# Altium footprint library IC-SMD.PCBLIB: 298 footprints (part 8 of 19)
Each footprint in its own frame and in the unit in brackets; x right, y up, seen from the top. Pads: shape width x height; smd on the part's side, far side on the other; paste and mask are expansions set on the pad; w line width, h text height; cw(c..) or ccw(c..) is an arc to the next point about the centre after c.
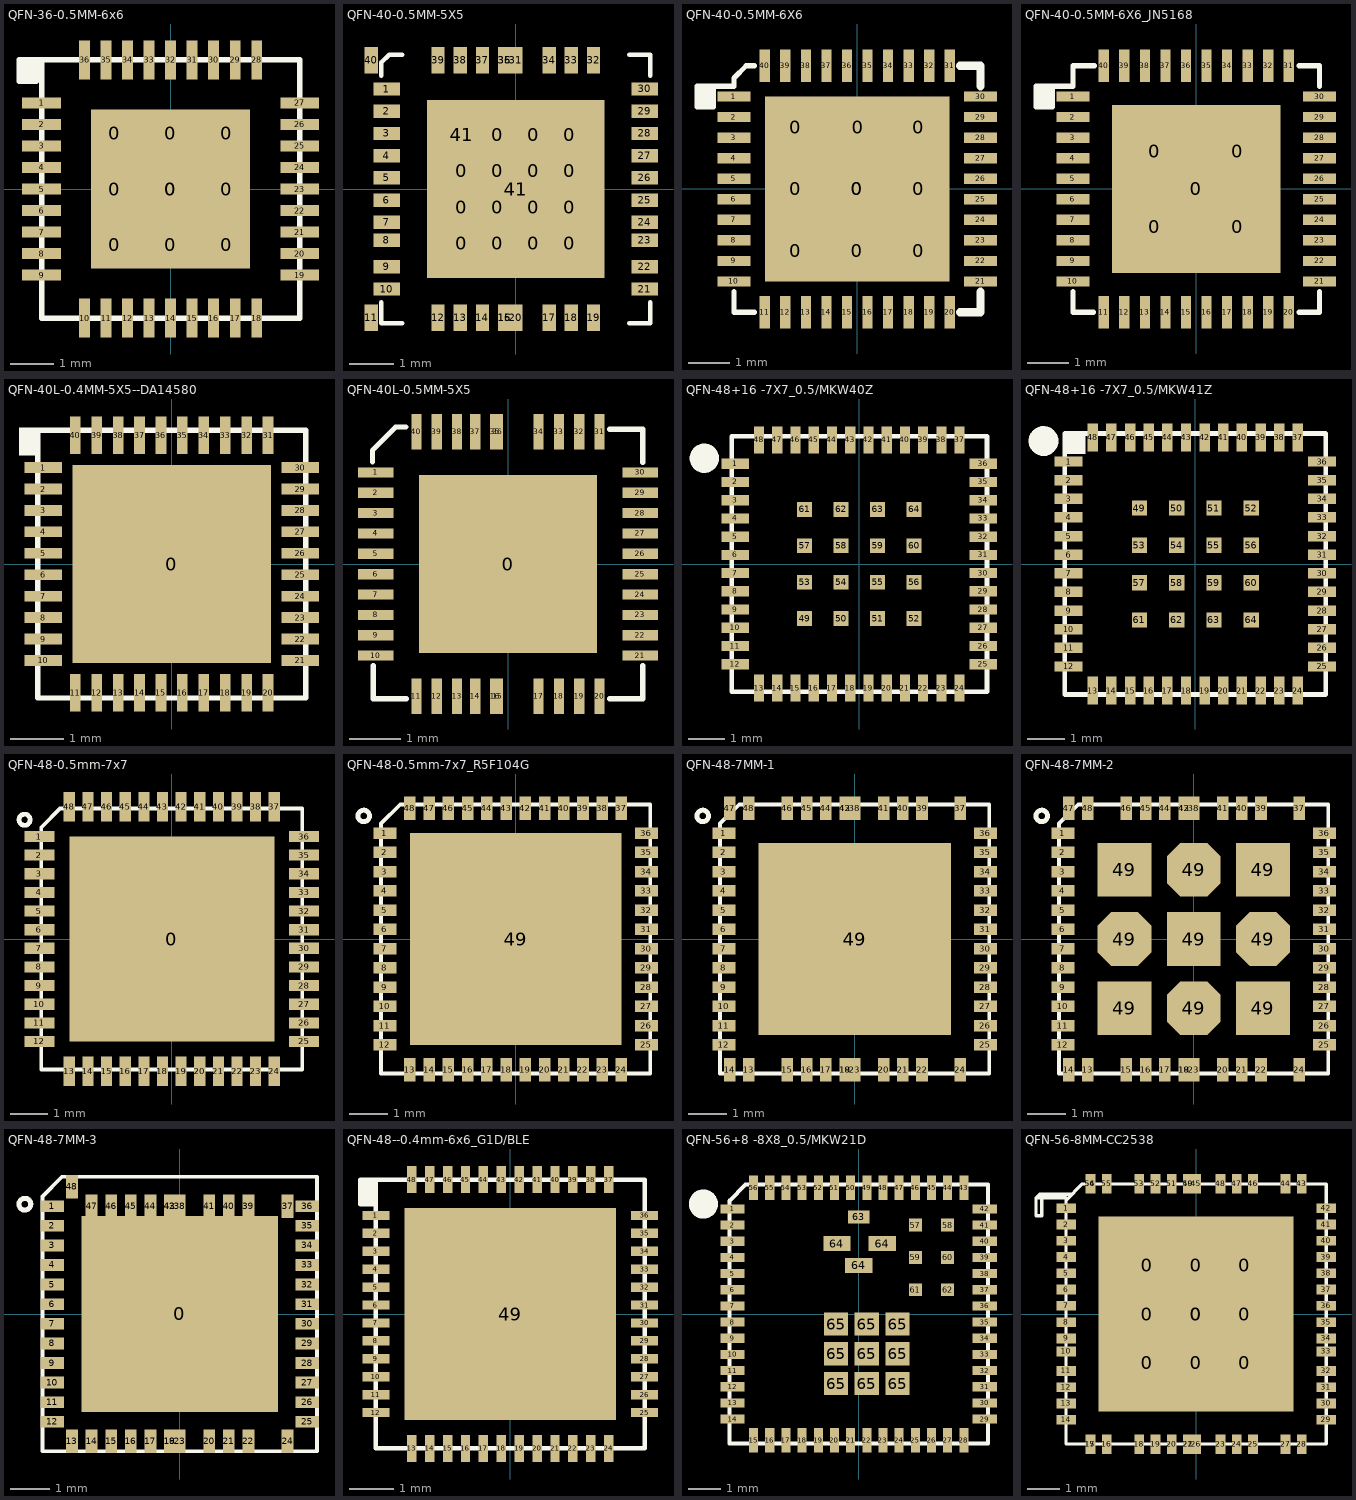
[diagram p7: the footprints below, top view; thin cyan lines are the x and y axes]

## QFN-36-0.5MM-6x6 [mm] "QFN-36-0.5MM-6x6"
pads (46):
  rect 0.9x0.9 on Top Paste: 0(-1.3,-1.3) 0(-1.3,0) 0(-1.3,1.3) 0(0,1.3) 0(0,-1.3) 0(0,0) 0(1.3,-1.3) 0(1.3,0) 0(1.3,1.3)
  rect 3.7x3.7 smd paste-5: 0(0,0)
  rect 0.9x0.25 smd: 1(-3,2) 2(-3,1.5) 3(-3,1) 4(-3,0.5) 5(-3,0) 6(-3,-0.5) 7(-3,-1) 8(-3,-1.5) 9(-3,-2) 19(3,-2) 20(3,-1.5) 21(3,-1) 22(3,-0.5) 23(3,0) 24(3,0.5) 25(3,1) 26(3,1.5) 27(3,2)
  rect 0.25x0.9 smd: 10(-2,-3) 11(-1.5,-3) 12(-1,-3) 13(-0.5,-3) 14(0,-3) 15(0.5,-3) 16(1,-3) 17(1.5,-3) 18(2,-3) 28(2,3) 29(1.5,3) 30(1,3) 31(0.5,3) 32(0,3) 33(-0.5,3) 34(-1,3) 35(-1.5,3) 36(-2,3)
TopOverlay:
  rectangle: -3.525,2.5 -3.125,3
  lines w0.127: -3.5,3 -3,3 ; -3,3 -3,-3 3,-3 3,3 -3,3 ; -3.525,2.5 -3.325,2.5 -3.125,2.5 -3.125,3 -3.325,3 -3.525,3 -3.525,2.5

## QFN-40-0.5MM-5X5 [mm]
pads (57):
  rect 0.559x0.7 on Top Paste: 0(-1.219,-1.219) 0(-1.219,-0.406) 0(-1.219,0.406) 0(-0.406,-1.219) 0(-0.406,-0.406) 0(-0.406,0.406) 0(-0.406,1.219) 0(0.406,-1.219) 0(0.406,-0.406) 0(0.406,0.406) 0(0.406,1.219) 0(1.219,-1.219) 0(1.219,-0.406) 0(1.219,0.406) 0(1.219,1.219) 41(-1.219,1.219)
  rect 0.6x0.3 smd: 1(-2.9,2.25) 2(-2.9,1.75) 3(-2.9,1.25) 4(-2.9,0.75) 5(-2.9,0.25) 6(-2.9,-0.25) 7(-2.9,-0.75) 8(-2.9,-1.15) 9(-2.9,-1.75) 10(-2.9,-2.25) 21(2.9,-2.25) 22(2.9,-1.75) 23(2.9,-1.15) 24(2.9,-0.75) 25(2.9,-0.25) 26(2.9,0.25) 27(2.9,0.75) 28(2.9,1.25) 29(2.9,1.75) 30(2.9,2.25)
  rect 0.3x0.6 smd: 11(-3.25,-2.9) 12(-1.75,-2.9) 13(-1.25,-2.9) 14(-0.75,-2.9) 15(-0.25,-2.9) 16(-0.25,-2.9) 17(0.75,-2.9) 18(1.25,-2.9) 19(1.75,-2.9) 20(0,-2.9) 31(0,2.9) 32(1.75,2.9) 33(1.25,2.9) 34(0.75,2.9) 35(-0.25,2.9) 36(-0.25,2.9) 37(-0.75,2.9) 38(-1.25,2.9) 39(-1.75,2.9) 40(-3.25,2.9)
  rect 4x4 smd: 41(0,0)
TopOverlay:
  lines w0.1: -3.023,-2.55 -3.023,-3.023 -2.55,-3.023 ; -3.023,2.55 -3.023,2.85 -2.85,3.023 -2.55,3.023 ; 2.55,-3.023 3.023,-3.023 3.023,-2.55 ; 2.55,3.023 3.023,3.023 3.023,2.55
TopSolder:
  rectangle: -2,-2 2,2
BottomSolder:
  rectangle: -2,-2 2,2

## QFN-40-0.5MM-6X6 [mm] "QFN-40-0.5MM-6X6"
pads (50):
  rect 1.2x1.2 on Top Paste: 0(-1.5,-1.5) 0(-1.5,0) 0(-1.5,1.5) 0(0,-1.5) 0(0,0) 0(0.025,1.5) 0(1.5,-1.5) 0(1.5,1.5) 0(1.5,0)
  rect 4.5x4.5 smd paste-5: 0(0,0)
  rect 0.8x0.25 smd: 1(-3,2.25) 2(-3,1.75) 3(-3,1.25) 4(-3,0.75) 5(-3,0.25) 6(-3,-0.25) 7(-3,-0.75) 8(-3,-1.25) 9(-3,-1.75) 10(-3,-2.25) 21(3,-2.25) 22(3,-1.75) 23(3,-1.25) 24(3,-0.75) 25(3,-0.25) 26(3,0.25) 27(3,0.75) 28(3,1.25) 29(3,1.75) 30(3,2.25)
  rect 0.25x0.8 smd: 11(-2.25,-3) 12(-1.75,-3) 13(-1.25,-3) 14(-0.75,-3) 15(-0.25,-3) 16(0.25,-3) 17(0.75,-3) 18(1.25,-3) 19(1.75,-3) 20(2.25,-3) 31(2.25,3) 32(1.75,3) 33(1.25,3) 34(0.75,3) 35(0.25,3) 36(-0.25,3) 37(-0.75,3) 38(-1.25,3) 39(-1.75,3) 40(-2.25,3)
TopOverlay:
  rectangle: -3.9,2 -3.5,2.5
  lines w0.127: -3,-2.5 -3,-3 -2.5,-3 ; -2.5,3 -2.7,3 -3,2.7 -3,2.5 -3.5,2.5 ; -3.5,2.5 -3.5,2 -3.7,2 -3.9,2 -3.9,2.5 -3.7,2.5 -3.5,2.5
  lines w0.2: 2.5,-3 3,-3 3,-2.5 ; 2.5,3 3,3 3,2.5

## QFN-40-0.5MM-6X6_JN5168 [mm] "QFN-40-0.5MM-6X6_JN5168"
pads (45):
  rect 1.53x1.53 on Top Paste: 0(-1.015,-0.915) 0(-1.015,0.915) 0(1.015,-0.915) 0(1.015,0.915)
  rect 4.1x4.1 smd paste-5: 0(0,0)
  rect 0.8x0.25 smd: 1(-3,2.25) 2(-3,1.75) 3(-3,1.25) 4(-3,0.75) 5(-3,0.25) 6(-3,-0.25) 7(-3,-0.75) 8(-3,-1.25) 9(-3,-1.75) 10(-3,-2.25) 21(3,-2.25) 22(3,-1.75) 23(3,-1.25) 24(3,-0.75) 25(3,-0.25) 26(3,0.25) 27(3,0.75) 28(3,1.25) 29(3,1.75) 30(3,2.25)
  rect 0.25x0.8 smd: 11(-2.25,-3) 12(-1.75,-3) 13(-1.25,-3) 14(-0.75,-3) 15(-0.25,-3) 16(0.25,-3) 17(0.75,-3) 18(1.25,-3) 19(1.75,-3) 20(2.25,-3) 31(2.25,3) 32(1.75,3) 33(1.25,3) 34(0.75,3) 35(0.25,3) 36(-0.25,3) 37(-0.75,3) 38(-1.25,3) 39(-1.75,3) 40(-2.25,3)
TopOverlay:
  rectangle: -3.9,2 -3.5,2.5
  lines w0.127: -3,-2.5 -3,-3 -2.5,-3 ; -3,3 -3,2.5 -3.5,2.5 ; -2.975,3 -2.475,3 ; 2.5,-3 3,-3 3,-2.5 ; 2.5,3 3,3 3,2.5 ; -3.5,2.5 -3.5,2 -3.7,2 -3.9,2 -3.9,2.5 -3.7,2.5 -3.5,2.5

## QFN-40L-0.4MM-5X5--DA14580 [mm] "QFN-40L-0.4MM-5X5--DA14580"
pads (41):
  rect 3.7x3.7 smd: 0(0,0)
  rect 0.7x0.2 smd: 1(-2.4,1.8) 2(-2.4,1.4) 3(-2.4,1) 4(-2.4,0.6) 5(-2.4,0.2) 6(-2.4,-0.2) 7(-2.4,-0.6) 8(-2.4,-1) 9(-2.4,-1.4) 10(-2.4,-1.8) 21(2.4,-1.8) 22(2.4,-1.4) 23(2.4,-1) 24(2.4,-0.6) 25(2.4,-0.2) 26(2.4,0.2) 27(2.4,0.6) 28(2.4,1) 29(2.4,1.4) 30(2.4,1.8)
  rect 0.2x0.7 smd: 11(-1.8,-2.4) 12(-1.4,-2.4) 13(-1,-2.4) 14(-0.6,-2.4) 15(-0.2,-2.4) 16(0.2,-2.4) 17(0.6,-2.4) 18(1,-2.4) 19(1.4,-2.4) 20(1.8,-2.4) 31(1.8,2.4) 32(1.4,2.4) 33(1,2.4) 34(0.6,2.4) 35(0.2,2.4) 36(-0.2,2.4) 37(-0.6,2.4) 38(-1,2.4) 39(-1.4,2.4) 40(-1.8,2.4)
TopOverlay:
  rectangle: -2.85,2.025 -2.5,2.55
  lines w0.1: -2.5,-2.5 2.05,-2.5 2.5,-2.5 2.5,2.05 2.5,2.5 2.05,2.5 -2.5,2.5 -2.5,-2.05 -2.5,-2.5

## QFN-40L-0.5MM-5X5 [mm]
pads (41):
  rect 3.5x3.5 smd: 0(0,0)
  rect 0.7x0.2 smd: 1(-2.6,1.8) 2(-2.6,1.4) 3(-2.6,1) 4(-2.6,0.6) 5(-2.6,0.2) 6(-2.6,-0.2) 7(-2.6,-0.6) 8(-2.6,-1) 9(-2.6,-1.4) 10(-2.6,-1.8) 21(2.6,-1.8) 22(2.6,-1.4) 23(2.6,-1) 24(2.6,-0.6) 25(2.6,-0.2) 26(2.6,0.2) 27(2.6,0.6) 28(2.6,1) 29(2.6,1.4) 30(2.6,1.8)
  rect 0.2x0.7 smd: 11(-1.8,-2.6) 12(-1.4,-2.6) 13(-1,-2.6) 14(-0.645,-2.6) 15(-0.2,-2.6) 16(-0.25,-2.6) 17(0.6,-2.6) 18(1,-2.6) 19(1.4,-2.6) 20(1.8,-2.6) 31(1.8,2.6) 32(1.4,2.6) 33(1,2.6) 34(0.6,2.6) 35(-0.25,2.6) 36(-0.2,2.6) 37(-0.645,2.6) 38(-1,2.6) 39(-1.4,2.6) 40(-1.8,2.6)
TopOverlay:
  lines w0.1: -2.667,2.007 -2.667,2.235 -2.21,2.692 -2.007,2.692 ; -2.65,-2 -2.65,-2.65 -2,-2.65 ; 2,-2.65 2.65,-2.65 2.65,-2 ; 2,2.65 2.65,2.65 2.65,2

## QFN-48+16 -7X7_0.5/MKW40Z [mm] "QFN-48+16 -7X7_0.5/MKW40Z"
pads (64):
  rect 0.75x0.28 smd mask+0.05: 1(-3.4,2.75) 2(-3.4,2.25) 3(-3.4,1.75) 4(-3.4,1.25) 5(-3.4,0.75) 6(-3.4,0.25) 7(-3.4,-0.25) 8(-3.4,-0.75) 9(-3.4,-1.25) 10(-3.4,-1.75) 11(-3.4,-2.25) 12(-3.4,-2.75) 25(3.4,-2.75) 26(3.4,-2.25) 27(3.4,-1.75) 28(3.4,-1.25) 29(3.4,-0.75) 30(3.4,-0.25) 31(3.4,0.25) 32(3.4,0.75) 33(3.4,1.25) 34(3.4,1.75) 35(3.4,2.25) 36(3.4,2.75)
  rect 0.28x0.75 smd mask+0.05: 13(-2.75,-3.4) 14(-2.25,-3.4) 15(-1.75,-3.4) 16(-1.25,-3.4) 17(-0.75,-3.4) 18(-0.25,-3.4) 19(0.25,-3.4) 20(0.75,-3.4) 21(1.25,-3.4) 22(1.75,-3.4) 23(2.25,-3.4) 24(2.75,-3.4) 37(2.75,3.4) 38(2.25,3.4) 39(1.75,3.4) 40(1.25,3.4) 41(0.75,3.4) 42(0.25,3.4) 43(-0.25,3.4) 44(-0.75,3.4) 45(-1.25,3.4) 46(-1.75,3.4) 47(-2.25,3.4) 48(-2.75,3.4)
  rect 0.41x0.41 smd mask+0.05: 49(-1.5,-1.5) 50(-0.5,-1.5) 51(0.5,-1.5) 52(1.5,-1.5) 53(-1.5,-0.5) 54(-0.5,-0.5) 55(0.5,-0.5) 56(1.5,-0.5) 57(-1.5,0.5) 58(-0.5,0.5) 59(0.5,0.5) 60(1.5,0.5) 61(-1.5,1.5) 62(-0.5,1.5) 63(0.5,1.5) 64(1.5,1.5)
TopOverlay:
  circle w0.4: c-4.25,2.9 r0.2
  lines w0.127: -3.5,-3.5 3.5,-3.5 3.5,3.5 -3.5,3.5 -3.5,-3.5

## QFN-48+16 -7X7_0.5/MKW41Z [mm] "FN-48+16 -7X7_0.5/MKW41Z"
pads (64):
  rect 0.75x0.28 smd mask+0.05: 1(-3.4,2.75) 2(-3.4,2.25) 3(-3.4,1.75) 4(-3.4,1.25) 5(-3.4,0.75) 6(-3.4,0.25) 7(-3.4,-0.25) 8(-3.4,-0.75) 9(-3.4,-1.25) 10(-3.4,-1.75) 11(-3.4,-2.25) 12(-3.4,-2.75) 25(3.4,-2.75) 26(3.4,-2.25) 27(3.4,-1.75) 28(3.4,-1.25) 29(3.4,-0.75) 30(3.4,-0.25) 31(3.4,0.25) 32(3.4,0.75) 33(3.4,1.25) 34(3.4,1.75) 35(3.4,2.25) 36(3.4,2.75)
  rect 0.28x0.75 smd mask+0.05: 13(-2.75,-3.4) 14(-2.25,-3.4) 15(-1.75,-3.4) 16(-1.25,-3.4) 17(-0.75,-3.4) 18(-0.25,-3.4) 19(0.25,-3.4) 20(0.75,-3.4) 21(1.25,-3.4) 22(1.75,-3.4) 23(2.25,-3.4) 24(2.75,-3.4) 37(2.75,3.4) 38(2.25,3.4) 39(1.75,3.4) 40(1.25,3.4) 41(0.75,3.4) 42(0.25,3.4) 43(-0.25,3.4) 44(-0.75,3.4) 45(-1.25,3.4) 46(-1.75,3.4) 47(-2.25,3.4) 48(-2.75,3.4)
  rect 0.41x0.41 smd mask+0.05: 49(-1.5,1.5) 50(-0.5,1.5) 51(0.5,1.5) 52(1.5,1.5) 53(-1.5,0.5) 54(-0.5,0.5) 55(0.5,0.5) 56(1.5,0.5) 57(-1.5,-0.5) 58(-0.5,-0.5) 59(0.5,-0.5) 60(1.5,-0.5) 61(-1.5,-1.5) 62(-0.5,-1.5) 63(0.5,-1.5) 64(1.5,-1.5)
TopOverlay:
  circle w0.4: c-4.075,3.3 r0.2
  rectangle: -3.475,2.95 -2.95,3.5
  lines w0.127: -3.5,-3.5 -3.5,3.5 3.5,3.5 3.5,-3.5 -3.5,-3.5

## QFN-48-0.5mm-7x7 [mm] "QFN-48-0.5mm-7x7"
pads (49):
  rect 5.5x5.5 smd: 0(0,0)
  rect 0.8x0.3 smd: 1(-3.55,2.75) 2(-3.55,2.25) 3(-3.55,1.75) 4(-3.55,1.25) 5(-3.55,0.75) 6(-3.55,0.25) 7(-3.55,-0.25) 8(-3.55,-0.75) 9(-3.55,-1.25) 10(-3.55,-1.75) 11(-3.55,-2.25) 12(-3.55,-2.75) 25(3.55,-2.75) 26(3.55,-2.25) 27(3.55,-1.75) 28(3.55,-1.25) 29(3.55,-0.75) 30(3.55,-0.25) 31(3.55,0.25) 32(3.55,0.75) 33(3.55,1.25) 34(3.55,1.75) 35(3.55,2.25) 36(3.55,2.75)
  rect 0.3x0.8 smd: 13(-2.75,-3.55) 14(-2.25,-3.55) 15(-1.75,-3.55) 16(-1.25,-3.55) 17(-0.75,-3.55) 18(-0.25,-3.55) 19(0.25,-3.55) 20(0.75,-3.55) 21(1.25,-3.55) 22(1.75,-3.55) 23(2.25,-3.55) 24(2.75,-3.55) 37(2.75,3.55) 38(2.25,3.55) 39(1.75,3.55) 40(1.25,3.55) 41(0.75,3.55) 42(0.25,3.55) 43(-0.25,3.55) 44(-0.75,3.55) 45(-1.25,3.55) 46(-1.75,3.55) 47(-2.25,3.55) 48(-2.75,3.55)
TopOverlay:
  circle w0.127: c-3.95,3.2 r0.15
  lines w0.1: -3.5,-3.5 3.5,-3.5 3.5,3.5 -3,3.5 -3.5,3 -3.5,-3.5
TopPaste:
  rectangle: 0.3,-2.15 2,-0.25
  rectangle: -2.1,-2.15 -0.4,-0.25
  rectangle: 0.3,0.25 2,2.15
  rectangle: -2.1,0.25 -0.4,2.15

## QFN-48-0.5mm-7x7_R5F104G [mm] "QFN-48-0.5mm-7x7_R5F104G"
pads (49):
  rect 0.6x0.3 smd: 1(-3.4,2.75) 2(-3.4,2.25) 3(-3.4,1.75) 4(-3.4,1.25) 5(-3.4,0.75) 6(-3.4,0.25) 7(-3.4,-0.25) 8(-3.4,-0.75) 9(-3.4,-1.25) 10(-3.4,-1.75) 11(-3.4,-2.25) 12(-3.4,-2.75) 25(3.4,-2.75) 26(3.4,-2.25) 27(3.4,-1.75) 28(3.4,-1.25) 29(3.4,-0.75) 30(3.4,-0.25) 31(3.4,0.25) 32(3.4,0.75) 33(3.4,1.25) 34(3.4,1.75) 35(3.4,2.25) 36(3.4,2.75)
  rect 0.3x0.6 smd: 13(-2.75,-3.4) 14(-2.25,-3.4) 15(-1.75,-3.4) 16(-1.25,-3.4) 17(-0.75,-3.4) 18(-0.25,-3.4) 19(0.25,-3.4) 20(0.75,-3.4) 21(1.25,-3.4) 22(1.75,-3.4) 23(2.25,-3.4) 24(2.75,-3.4) 37(2.75,3.4) 38(2.25,3.4) 39(1.75,3.4) 40(1.25,3.4) 41(0.75,3.4) 42(0.25,3.4) 43(-0.25,3.4) 44(-0.75,3.4) 45(-1.25,3.4) 46(-1.75,3.4) 47(-2.25,3.4) 48(-2.75,3.4)
  rect 5.5x5.5 smd: 49(0,0)
TopOverlay:
  circle w0.127: c-3.95,3.2 r0.15
  lines w0.1: -3.5,-3.5 3.5,-3.5 3.5,3.5 -3,3.5 -3.5,3 -3.5,-3.5
TopPaste:
  rectangle: 0.3,-2.15 2,-0.25
  rectangle: -2.1,-2.15 -0.4,-0.25
  rectangle: 0.3,0.25 2,2.15
  rectangle: -2.1,0.25 -0.4,2.15

## QFN-48-7MM-1 [mm]
pads (49):
  rect 0.6x0.3 smd: 1(-3.4,2.75) 2(-3.4,2.25) 3(-3.4,1.75) 4(-3.4,1.25) 5(-3.4,0.75) 6(-3.4,0.25) 7(-3.4,-0.25) 8(-3.4,-0.75) 9(-3.4,-1.25) 10(-3.4,-1.75) 11(-3.4,-2.25) 12(-3.4,-2.75) 25(3.4,-2.75) 26(3.4,-2.25) 27(3.4,-1.75) 28(3.4,-1.25) 29(3.4,-0.75) 30(3.4,-0.25) 31(3.4,0.25) 32(3.4,0.75) 33(3.4,1.25) 34(3.4,1.75) 35(3.4,2.25) 36(3.4,2.75)
  rect 0.3x0.6 smd: 13(-2.75,-3.4) 14(-3.25,-3.4) 15(-1.75,-3.4) 16(-1.25,-3.4) 17(-0.75,-3.4) 18(-0.25,-3.4) 19(-0.25,-3.4) 20(0.75,-3.4) 21(1.25,-3.4) 22(1.75,-3.4) 23(0,-3.4) 24(2.75,-3.4) 37(2.75,3.4) 38(0,3.4) 39(1.75,3.4) 40(1.25,3.4) 41(0.75,3.4) 42(-0.25,3.4) 43(-0.25,3.4) 44(-0.75,3.4) 45(-1.25,3.4) 46(-1.75,3.4) 47(-3.25,3.4) 48(-2.75,3.4)
  rect 5x5 smd: 49(0,0)
TopOverlay:
  circle w0.127: c-3.95,3.2 r0.15
  lines w0.1: -3.5,-3.5 3.5,-3.5 3.5,3.5 -3,3.5 -3.5,3 -3.5,-3.5
TopSolder:
  rectangle: 1.1,-0.7 2.5,0.7
  rectangle: -0.7,-0.7 0.7,0.7
  rectangle: -2.5,-0.7 -1.1,0.7
  rectangle: -0.7,-2.5 0.7,-1.1
  rectangle: 1.1,-2.5 2.5,-1.1
  rectangle: -2.5,-2.5 -1.1,-1.1
  rectangle: -0.7,1.1 0.7,2.5
  rectangle: 1.1,1.1 2.5,2.5
  rectangle: -2.5,1.1 -1.1,2.5

## QFN-48-7MM-2 [mm]
pads (57):
  rect 0.6x0.3 smd: 1(-3.4,2.75) 2(-3.4,2.25) 3(-3.4,1.75) 4(-3.4,1.25) 5(-3.4,0.75) 6(-3.4,0.25) 7(-3.4,-0.25) 8(-3.4,-0.75) 9(-3.4,-1.25) 10(-3.4,-1.75) 11(-3.4,-2.25) 12(-3.4,-2.75) 25(3.4,-2.75) 26(3.4,-2.25) 27(3.4,-1.75) 28(3.4,-1.25) 29(3.4,-0.75) 30(3.4,-0.25) 31(3.4,0.25) 32(3.4,0.75) 33(3.4,1.25) 34(3.4,1.75) 35(3.4,2.25) 36(3.4,2.75)
  rect 0.3x0.6 smd: 13(-2.75,-3.4) 14(-3.25,-3.4) 15(-1.75,-3.4) 16(-1.25,-3.4) 17(-0.75,-3.4) 18(-0.25,-3.4) 19(-0.25,-3.4) 20(0.75,-3.4) 21(1.25,-3.4) 22(1.75,-3.4) 23(0,-3.4) 24(2.75,-3.4) 37(2.75,3.4) 38(0,3.4) 39(1.75,3.4) 40(1.25,3.4) 41(0.75,3.4) 42(-0.25,3.4) 43(-0.25,3.4) 44(-0.75,3.4) 45(-1.25,3.4) 46(-1.75,3.4) 47(-3.25,3.4) 48(-2.75,3.4)
  rect 1.4x1.4 smd: 49(-1.8,-1.8) 49(-1.8,1.8) 49(0,0) 49(1.8,-1.8) 49(1.8,1.8)
  oct 1.4x1.4 smd: 49(-1.8,0) 49(0,-1.8) 49(0,1.8) 49(1.8,0)
TopOverlay:
  circle w0.127: c-3.95,3.2 r0.15
  lines w0.1: -3.5,-3.5 3.5,-3.5 3.5,3.5 -3,3.5 -3.5,3 -3.5,-3.5

## QFN-48-7MM-3 [mm]
pads (49):
  rect 5x5 smd: 0(0,0)
  rect 0.6x0.3 smd: 1(-3.25,2.75) 2(-3.25,2.25) 3(-3.25,1.75) 4(-3.25,1.25) 5(-3.25,0.75) 6(-3.25,0.25) 7(-3.25,-0.25) 8(-3.25,-0.75) 9(-3.25,-1.25) 10(-3.25,-1.75) 11(-3.25,-2.25) 12(-3.25,-2.75) 25(3.25,-2.75) 26(3.25,-2.25) 27(3.25,-1.75) 28(3.25,-1.25) 29(3.25,-0.75) 30(3.25,-0.25) 31(3.25,0.25) 32(3.25,0.75) 33(3.25,1.25) 34(3.25,1.75) 35(3.25,2.25) 36(3.25,2.75)
  rect 0.3x0.6 smd: 13(-2.75,-3.25) 14(-2.25,-3.25) 15(-1.75,-3.25) 16(-1.25,-3.25) 17(-0.75,-3.25) 18(-0.25,-3.25) 19(-0.25,-3.25) 20(0.75,-3.25) 21(1.25,-3.25) 22(1.75,-3.25) 23(0,-3.25) 24(2.75,-3.25) 37(2.75,2.75) 38(0,2.75) 39(1.75,2.75) 40(1.25,2.75) 41(0.75,2.75) 42(-0.25,2.75) 43(-0.25,2.75) 44(-0.75,2.75) 45(-1.25,2.75) 46(-1.75,2.75) 47(-2.25,2.75) 48(-2.75,3.25)
TopOverlay:
  circle w0.127: c-3.95,2.8 r0.15
  lines w0.1: -3.5,-3.5 -3.5,3 -3,3.5 3.5,3.5 3.5,-3.5 -3.5,-3.5
TopSolder:
  rectangle: -2.5,1.1 -1.1,2.5
  rectangle: 1.1,1.1 2.5,2.5
  rectangle: -0.7,1.1 0.7,2.5
  rectangle: -2.5,-2.5 -1.1,-1.1
  rectangle: 1.1,-2.5 2.5,-1.1
  rectangle: -0.7,-2.5 0.7,-1.1
  rectangle: -2.5,-0.7 -1.1,0.7
  rectangle: -0.7,-0.7 0.7,0.7
  rectangle: 1.1,-0.7 2.5,0.7

## QFN-48--0.4mm-6x6_G1D/BLE [mm] "QFN-48--0.4mm-6x6_G1D/BLE"
pads (49):
  rect 0.6x0.21 smd: 1(-3,2.2) 2(-3,1.8) 3(-3,1.4) 4(-3,1) 5(-3,0.6) 6(-3,0.2) 7(-3,-0.2) 8(-3,-0.6) 9(-3,-1) 10(-3,-1.4) 11(-3,-1.8) 12(-3,-2.2) 25(3,-2.2) 26(3,-1.8) 27(3,-1.4) 28(3,-1) 29(3,-0.6) 30(3,-0.2) 31(3,0.2) 32(3,0.6) 33(3,1) 34(3,1.4) 35(3,1.8) 36(3,2.2)
  rect 0.21x0.6 smd: 13(-2.2,-3) 14(-1.8,-3) 15(-1.4,-3) 16(-1,-3) 17(-0.6,-3) 18(-0.2,-3) 19(0.2,-3) 20(0.6,-3) 21(1,-3) 22(1.4,-3) 23(1.8,-3) 24(2.2,-3) 37(2.2,3) 38(1.8,3) 39(1.4,3) 40(1,3) 41(0.6,3) 42(0.2,3) 43(-0.2,3) 44(-0.6,3) 45(-1,3) 46(-1.4,3) 47(-1.8,3) 48(-2.2,3)
  rect 4.73x4.73 smd: 49(0,0)
TopOverlay:
  rectangle: -3.4,2.45 -3.05,3
  lines w0.1: -3.35,2.45 -3,2.45 ; -3.35,3 -3,3 ; -3,3 -3,-3 3,-3 3,3 -3,3

## QFN-56+8 -8X8_0.5/MKW21D [mm] "QFN-56+8 -8X8_0.5/MKW21D"
pads (75):
  rect 0.75x0.28 smd mask+0.06: 1(-3.9,3.25) 2(-3.9,2.75) 3(-3.9,2.25) 4(-3.9,1.75) 5(-3.9,1.25) 6(-3.9,0.75) 7(-3.9,0.25) 8(-3.9,-0.25) 9(-3.9,-0.75) 10(-3.9,-1.25) 11(-3.9,-1.75) 12(-3.9,-2.25) 13(-3.9,-2.75) 14(-3.9,-3.25) 29(3.9,-3.25) 30(3.9,-2.75) 31(3.9,-2.25) 32(3.9,-1.75) 33(3.9,-1.25) 34(3.9,-0.75) 35(3.9,-0.25) 36(3.9,0.25) 37(3.9,0.75) 38(3.9,1.25) 39(3.9,1.75) 40(3.9,2.25) 41(3.9,2.75) 42(3.9,3.25)
  rect 0.28x0.75 smd mask+0.06: 15(-3.25,-3.9) 16(-2.75,-3.9) 17(-2.25,-3.9) 18(-1.75,-3.9) 19(-1.25,-3.9) 20(-0.75,-3.9) 21(-0.25,-3.9) 22(0.25,-3.9) 23(0.75,-3.9) 24(1.25,-3.9) 25(1.75,-3.9) 26(2.25,-3.9) 27(2.75,-3.9) 28(3.25,-3.9) 43(3.25,3.9) 44(2.75,3.9) 45(2.25,3.9) 46(1.75,3.9) 47(1.25,3.9) 48(0.75,3.9) 49(0.25,3.9) 50(-0.25,3.9) 51(-0.75,3.9) 52(-1.25,3.9) 53(-1.75,3.9) 54(-2.25,3.9) 55(-2.75,3.9) 56(-3.25,3.9)
  rect 0.4x0.4 smd mask+0.06: 57(1.75,2.75) 58(2.75,2.75) 59(1.75,1.75) 60(2.75,1.75) 61(1.75,0.75) 62(2.75,0.75)
  rect 0.66x0.4 smd mask+0.06: 63(0,3)
  rect 0.84x0.46 smd mask+0.06: 64(-0.675,2.175) 64(0,1.5) 64(0.725,2.175)
  rect 0.75x0.72 smd mask+0.06: 65(-0.7,-2.15) 65(-0.7,-1.23) 65(-0.7,-0.31) 65(0.25,-2.15) 65(0.25,-1.23) 65(0.25,-0.31) 65(1.2,-2.15) 65(1.2,-1.23) 65(1.2,-0.31)
TopOverlay:
  circle w0.5: c-4.8,3.4 r0.2
  lines w0.127: -4,-4 -4,3.5 -3.5,4 4,4 4,-4 -4,-4

## QFN-56-8MM-CC2538 [mm]
pads (66):
  rect 1x1 on Top Paste: 0(-1.5,-1.5) 0(-1.5,0) 0(-1.5,1.5) 0(0,-1.5) 0(0,0) 0(0,1.5) 0(1.5,-1.5) 0(1.5,0) 0(1.5,1.5)
  rect 6x6 smd: 0(0,0)
  rect 0.6x0.3 smd: 1(-4,3.25) 2(-4,2.75) 3(-4,2.25) 4(-4,1.75) 5(-4,1.25) 6(-4,0.75) 7(-4,0.25) 8(-4,-0.25) 9(-4,-0.75) 10(-4,-1.15) 11(-4,-1.75) 12(-4,-2.25) 13(-4,-2.75) 14(-4,-3.25) 29(4,-3.25) 30(4,-2.75) 31(4,-2.25) 32(4,-1.75) 33(4,-1.15) 34(4,-0.75) 35(4,-0.25) 36(4,0.25) 37(4,0.75) 38(4,1.25) 39(4,1.75) 40(4,2.25) 41(4,2.75) 42(4,3.25)
  rect 0.3x0.6 smd: 15(-3.25,-4) 16(-2.75,-4) 17(-3.25,-4) 18(-1.75,-4) 19(-1.25,-4) 20(-0.75,-4) 21(-0.25,-4) 22(-0.25,-4) 23(0.75,-4) 24(1.25,-4) 25(1.75,-4) 26(0,-4) 27(2.75,-4) 28(3.25,-4) 43(3.25,4) 44(2.75,4) 45(0,4) 46(1.75,4) 47(1.25,4) 48(0.75,4) 49(-0.25,4) 50(-0.25,4) 51(-0.75,4) 52(-1.25,4) 53(-1.75,4) 54(-3.25,4) 55(-2.75,4) 56(-3.25,4)
TopOverlay:
  lines w0.1: -4,3.575 -4.75,3.575 ; -3.816,3.684 -4.816,3.684 -4.925,3.575 ; -4.925,3.575 -4.75,3.575 ; -4.925,3.575 -4.925,3.025 -4.75,3.025 -4.75,3.575 ; -4,-4 4,-4 4,4 -3.5,4 -4,3.5 -4,-4